# Altium footprint library Radar_FMCW.PcbLib: 5 footprints
Each footprint in its own frame and in the unit in brackets; x right, y up, seen from the top. Pads: shape width x height; smd on the part's side, far side on the other; paste and mask are expansions set on the pad; w line width, h text height; cw(c..) or ccw(c..) is an arc to the next point about the centre after c.
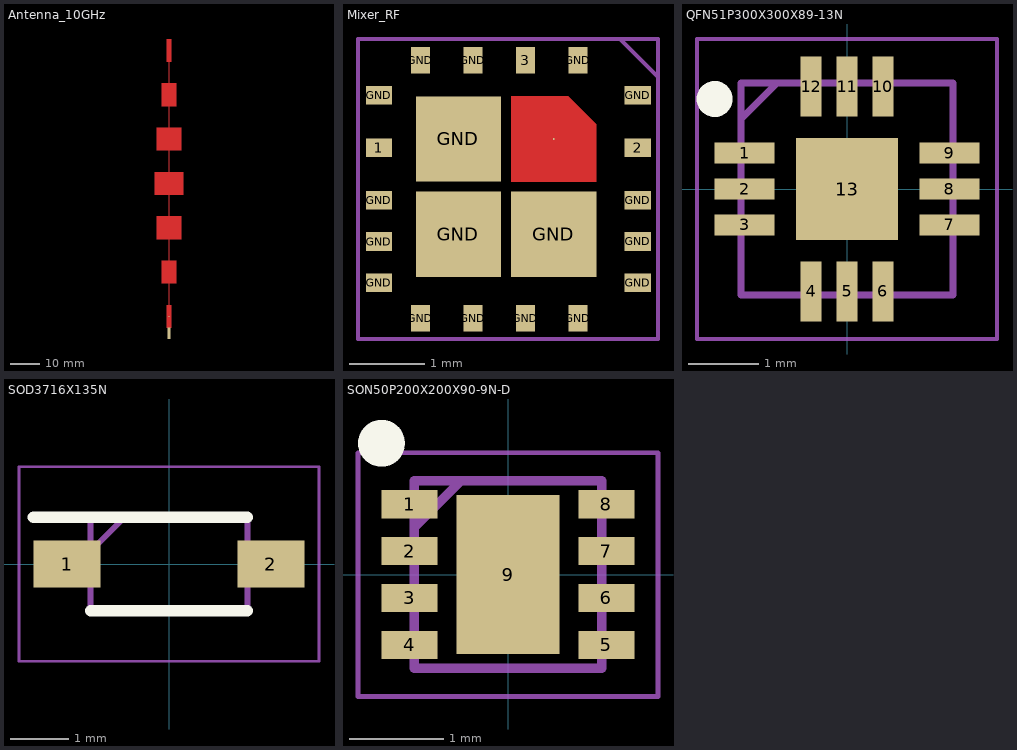
[diagram p0: the footprints below, top view; thin cyan lines are the x and y axes]

## Antenna_10GHz [mil]
pads (8):
  rect 38.43x151.5 smd: 1(2810.5,2118.75)
  round 1 smd: 1(2810.5,2342.35) 1(2810.5,2932.9) 1(2810.5,3523.45) 1(2810.5,4114) 1(2810.5,4704.55) 1(2810.5,5295.1) 1(2810.5,5885.65)
Top Layer:
  region: 2782.6,2191.35 2782.6,2493.35 2838.4,2493.35 2838.4,2191.35
  region: 2647.9,4553.55 2973.1,4553.55 2973.1,4855.55 2647.9,4855.55
  region: 2620,3963 2620,4265 3001,4265 3001,3963
  region: 2647.9,3372.45 2973.1,3372.45 2973.1,3674.45 2647.9,3674.45
  region: 2715.25,5144.1 2715.25,5446.1 2905.75,5446.1 2905.75,5144.1
  region: 2715.25,2781.9 2715.25,3083.9 2905.75,3083.9 2905.75,2781.9
  region: 2782.6,5734.65 2782.6,6036.65 2838.4,6036.65 2838.4,5734.65
  lines w10: 2810.5,2342.35 2810.5,2932.9 2810.5,3523.45 2810.5,4114 2810.5,4704.55 2810.5,5295.1 2810.5,5885.65

## Mixer_RF [mm]
pads (22):
  rect 0.35x0.25 smd: 1(3.385,4.709) 2(6.837,4.709) GND(3.385,2.909) GND(3.385,3.459) GND(3.385,4.009) GND(3.385,5.409) GND(6.837,2.909) GND(6.837,3.459) GND(6.837,4.009) GND(6.837,5.409)
  rect 0.25x0.35 smd: 3(5.338,5.876) GND(3.937,2.434) GND(3.937,5.876) GND(4.638,2.434) GND(4.638,5.876) GND(5.338,2.434) GND(6.038,2.434) GND(6.038,5.876)
  rect 1.136x1.136 smd: GND(4.445,3.556) GND(4.445,4.826) GND(5.715,3.556)
  round 0.025 smd: GND(5.715,4.826)
Top Layer:
  region: 5.147,4.258 5.147,5.394 5.909,5.394 6.283,5.02 6.283,4.258
Mechanical 13:
  lines w0.051: 6.597,6.159 7.105,5.651 ; 3.105,2.159 7.105,2.159 7.105,6.159 3.105,6.159 3.105,2.159

## QFN51P300X300X89-13N [mm]
pads (13):
  rect 0.85x0.3 smd: 1(-1.45,0.51) 2(-1.45,0) 3(-1.45,-0.51) 7(1.45,-0.51) 8(1.45,0) 9(1.45,0.51)
  rect 0.3x0.85 smd: 4(-0.51,-1.45) 5(0,-1.45) 6(0.51,-1.45) 10(0.51,1.45) 11(0,1.45) 12(-0.51,1.45)
  rect 1.45x1.45 smd: 13(0,0)
Top Overlay:
  circle w0.255: c-1.876,1.275 r0.128
Mechanical 13:
  lines w0.1: -1.5,0.99 -0.99,1.5 ; -1.5,-1.5 1.5,-1.5 1.5,1.5 -1.5,1.5 -1.5,-1.5
Mechanical 15:
  lines w0.05: -2.125,-2.125 2.125,-2.125 2.125,2.125 -2.125,2.125 -2.125,-2.125
3D body "XLF-732+.stp": height 0.89, standoff 0, extent -1.55,-1.55 1.55,1.55

## SOD3716X135N [mm]
pads (2):
  rect 1.15x0.8 smd: 1(-1.75,0) 2(1.75,0)
Top Overlay:
  lines w0.2: -2.325,0.8 1.345,0.8 ; -1.345,-0.8 1.345,-0.8
Mechanical 13:
  lines w0.1: -1.345,0.225 -0.77,0.8 ; -1.345,-0.8 -1.345,0.8 1.345,0.8 1.345,-0.8 -1.345,-0.8
Mechanical 15:
  lines w0.05: -2.575,-1.67 -2.575,1.67 2.575,1.67 2.575,-1.67 -2.575,-1.67
3D body "MMSZ4689T1G.stp": height 1.35, standoff 0, extent -1.855,-0.8 1.855,0.8

## SON50P200X200X90-9N-D [mm]
pads (9):
  rect 0.6x0.3 smd: 1(-1.05,0.75) 2(-1.05,0.25) 3(-1.05,-0.25) 4(-1.05,-0.75) 5(1.05,-0.75) 6(1.05,-0.25) 7(1.05,0.25) 8(1.05,0.75)
  rect 1.1x1.7 smd: 9(0,0)
Top Overlay:
  circle w0.25: c-1.35,1.4 r0.125
Mechanical 13:
  lines w0.1: -1,0.5 -0.5,1 ; -1,-1 1,-1 1,1 -1,1 -1,-1
Mechanical 15:
  lines w0.05: -1.6,-1.3 1.6,-1.3 1.6,1.3 -1.6,1.3 -1.6,-1.3
3D body "ADL8143ACPZN.stp": height 0.9, standoff 0, extent -1.05,-1 1.05,1